# EAGLE library part ACCELERATEDDESIGNS_LIB_TPS63020DSJR (library airu-board)
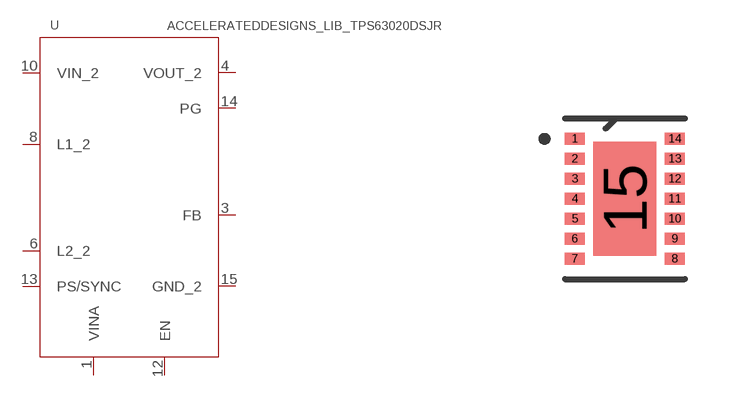
[diagram p0: symbol with the pads of ACCELERATEDDESIGNS_LIB_R-PVSON-N14; footprint ACCELERATEDDESIGNS_LIB_R-PVSON-N14]

Designator prefix -

## ACCELERATEDDESIGNS_LIB_TPS63020DSJR (DATASHEETURL: http://www.ti.com/lit/ds/symlink/tps63020.pdf; FREQUENCY: 2400000.0; IMAX: 3.0; MANUFACTURER_NAME: Texas Instruments; MANUFACTURER_PART_NUMBER: TPS63020DSJR; MKTG_PACKAGE: TPS63020; NSID: TPS63020DSJR; PACKAGE: TPS63020; VENDOR: Texas Instruments)  [ACCELERATEDDESIGNS_LIB_R-PVSON-N14]
1  VINA  pas
3  FB  pas
4  VOUT_2  pas
6  L2_2  pas
8  L1_2  pas
10  VIN_2  pas
12  EN  pas
13  PS/SYNC  pas
14  PG  pas
15  GND_2  pas

## Footprint ACCELERATEDDESIGNS_LIB_R-PVSON-N14 (pad centres in mm)
smd 0.5 x 0.3: 1 -1.25,1.5; 2 -1.25,1; 3 -1.25,0.5; 4 -1.25,0; 5 -1.25,-0.5; 6 -1.25,-1; 7 -1.25,-1.5; 8 1.25,-1.5; 9 1.25,-1; 10 1.25,-0.5; 11 1.25,0; 12 1.25,0.5; 13 1.25,1; 14 1.25,1.5
smd 1.58 x 2.85: 15 0,0